# Altium integrated library RR0816P-2492-D-39C.IntLib: 1 symbol
Pins are listed as number, name and electrical type; pins without a type are passive.

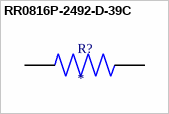
[diagram p0: symbol RR0816P-2492-D-39C]

## RR0816P-2492-D-39C
designator R?
24.9 kOhms Â±0.5% 0.063W, 1/16W Chip Resistor 0603 (1608 Metric) - Thin Film; MF: Susumu; MP: RR0816P-2492-D-39C; SnapEDA_Link: https://www.snapeda.com/parts/RR0816P-2492-D-39C/Susumu/view-part/?ref=snap; Package: 1608 Susumu; Value: *; Check_prices: https://www.snapeda.com/parts/RR0816P-2492-D-39C/Susumu/view-part/?ref=eda
footprint RESC1608X50N
pins: 1, 2